# Altium footprint library IRFP460APBF.PcbLib: 1 footprints
Each footprint in its own frame and in the unit in brackets; x right, y up, seen from the top. Pads: shape width x height; smd on the part's side, far side on the other; paste and mask are expansions set on the pad; w line width, h text height; cw(c..) or ccw(c..) is an arc to the next point about the centre after c.
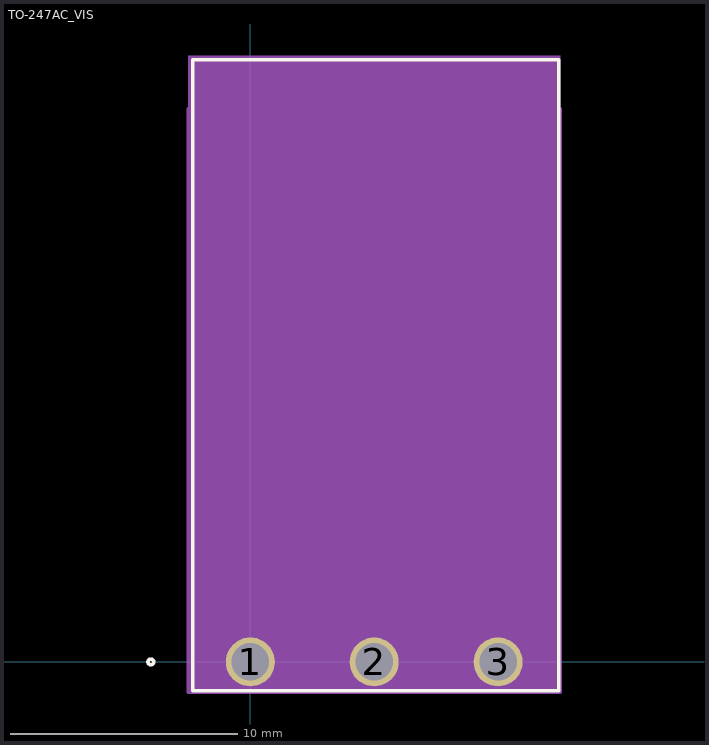
[diagram p0: the footprint, top view; thin cyan lines are the x and y axes]

## TO-247AC_VIS [mil]
pads (3):
  round 85 hole 65 mask+0: 1(0,0) 2(214.96,0) 3(429.92,0)
Top Overlay:
  circle w6: c-172.54,0 r5
  lines w6: -100,-50 -100,1045 535,1045 535,-50 -100,-50
Mechanical 13:
  circle w0: c-87.54,20 r5
  lines w1: -97.54,226.5 -97.54,1041.5 527.46,1041.5 527.46,226.5
Mechanical 15:
  region: 537.46,1051.5 -107.54,1051.5 -107.54,-52.5 537.46,-52.5
  lines w6: -107.54,-52.5 -107.54,960 537.46,960 537.46,-52.5 -107.54,-52.5
3D body: height 10, standoff 0, extent 0,0 10,10
3D body "TO-247AC_VIS.step": height 211.1, standoff -100, extent -97.52,-13.74 527.48,1041.5